# Altium footprint library MP3_Player.PcbLib: 13 footprints
Each footprint in its own frame and in the unit in brackets; x right, y up, seen from the top. Pads: shape width x height; smd on the part's side, far side on the other; paste and mask are expansions set on the pad; w line width, h text height; cw(c..) or ccw(c..) is an arc to the next point about the centre after c.
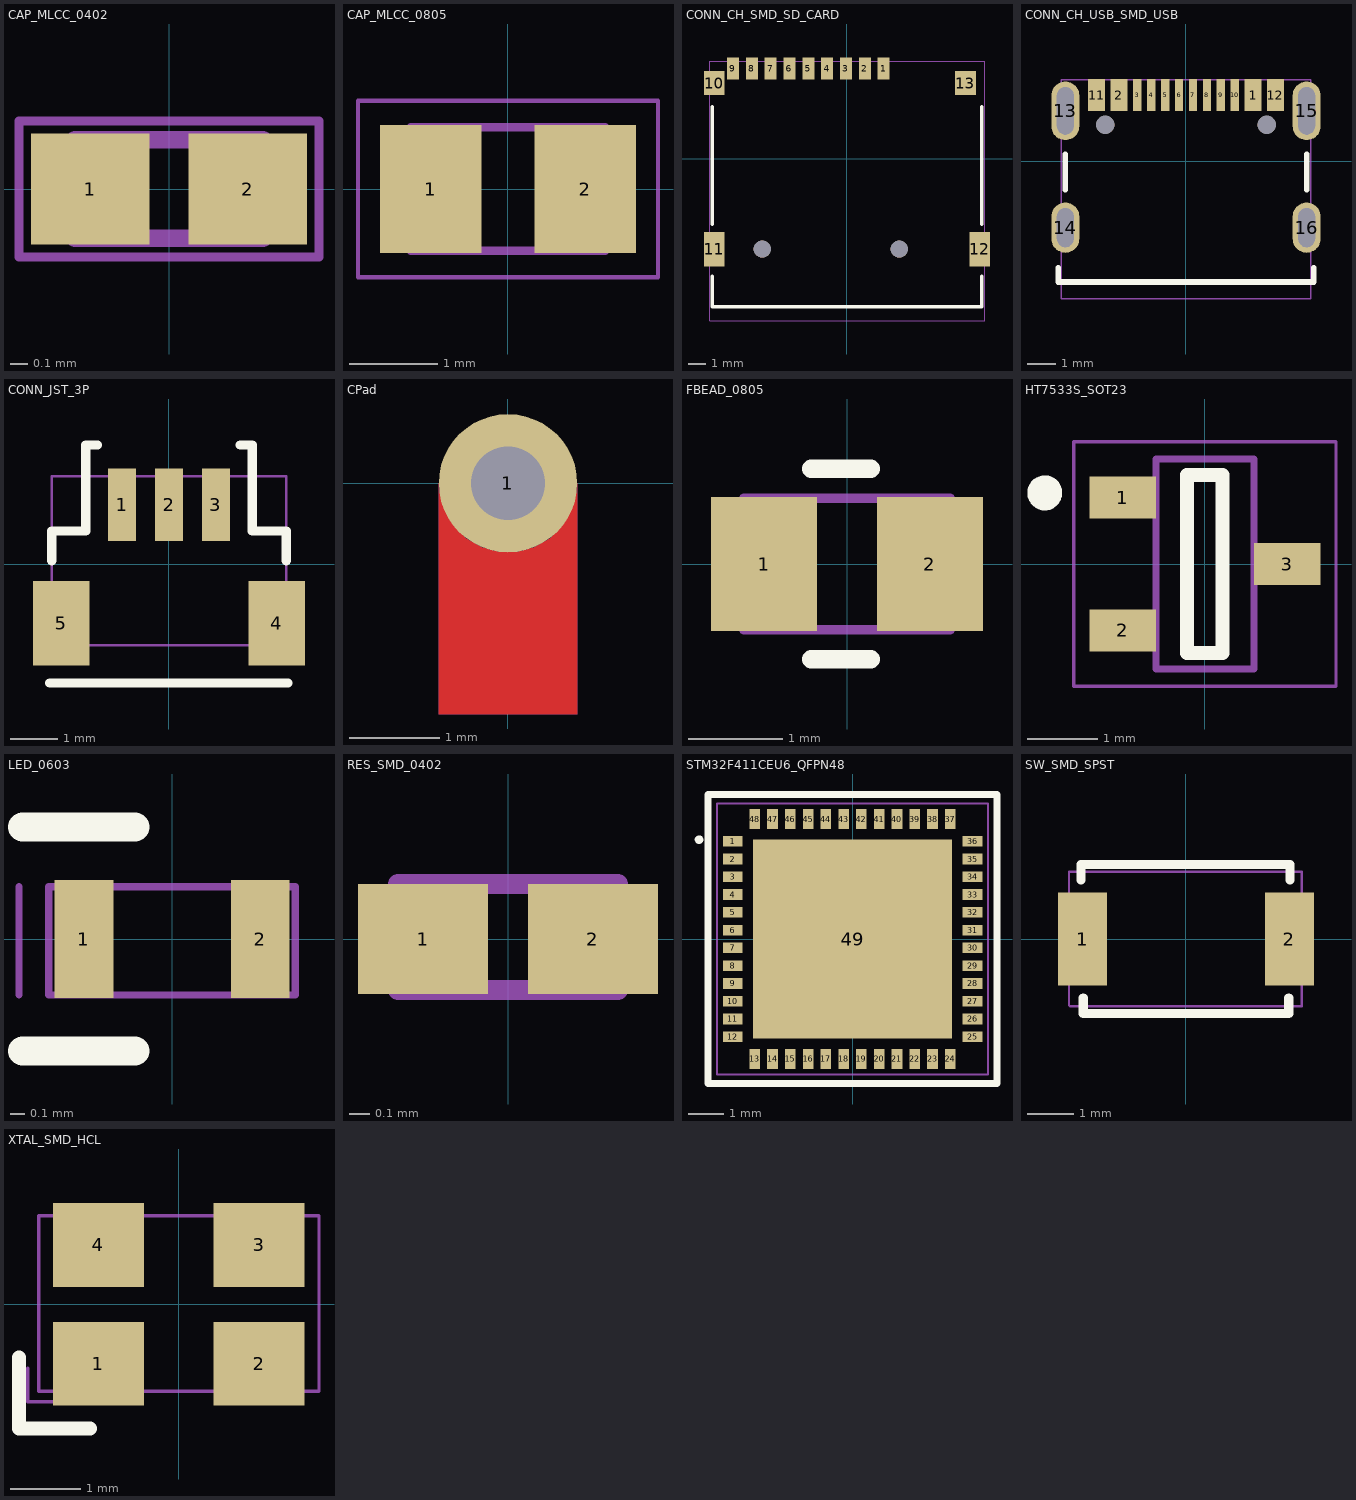
[diagram p0: the footprints below, top view; thin cyan lines are the x and y axes]

## CAP_MLCC_0402 [mm]
pads (2):
  rect 0.66x0.62 smd: 1(-0.44,0) 2(0.44,0)
Mechanical 13:
  lines w0.1: -0.525,-0.275 0.525,-0.275 0.525,0.275 -0.525,0.275 -0.525,-0.275
Mechanical 15:
  lines w0.051: -0.838,-0.381 0.838,-0.381 0.838,0.381 -0.838,0.381 -0.838,-0.381
  text "'.Designator'" at 0.836,-0.912 h0.76
3D body "CAP_MLCC_0402.step": height 0.55, standoff 0, extent -0.525,-0.275 0.525,0.275

## CAP_MLCC_0805 [mm]
pads (2):
  rect 1.15x1.45 smd: 1(-0.875,0) 2(0.875,0)
Mechanical 13:
  lines w0.1: -1.1,-0.7 1.1,-0.7 1.1,0.7 -1.1,0.7 -1.1,-0.7
Mechanical 15:
  lines w0.05: -1.7,-1 1.7,-1 1.7,1 -1.7,1 -1.7,-1
  text "'.Designator'" at -1.048,-0.127 h0.76
3D body "CAP_MLCC_0805.step": height 0.65, standoff 0, extent -1.1,-0.7 1.1,0.7

## CONN_CH_SMD_SD_CARD [mm]
pads (15):
  rect 0.7x1.3 smd: 1(2.14,5.275) 2(1.04,5.275) 3(-0.06,5.275) 4(-1.16,5.275) 5(-2.26,5.275) 6(-3.36,5.275) 7(-4.46,5.275) 8(-5.56,5.275) 9(-6.66,5.275)
  rect 1.2x1.4 smd paste+0: 10(-7.76,4.425) 13(6.92,4.425)
  rect 1.2x2 smd: 11(-7.76,-5.275) 12(7.76,-5.275)
  round 1 hole 1 unplated: ""(-4.95,-5.275) ""(3.05,-5.275)
Top Overlay:
  lines w0.2: -7.874,-6.858 -7.874,-8.636 7.874,-8.636 7.874,-6.858 ; -7.874,-3.81 -7.874,3.048 ; 7.874,-3.81 7.874,3.048
Mechanical 15:
  lines w0.05: -8.026,-9.449 8.052,-9.449 8.052,5.69 -8.026,5.69 -8.026,-9.449
  text "'.Designator'" at -0.744,-1.324 h0.76
3D body "connector_SD_CARD.STEP": height 2, standoff -0.45, extent -8.098,-9.528 8.002,5.672

## CONN_CH_USB_SMD_USB [mm]
pads (18):
  rect 0.6x1.15 smd: 1(2.4,2.372) 2(-2.4,2.372) 11(-3.2,2.372) 12(3.2,2.372)
  rect 0.3x1.15 smd: 3(-1.75,2.372) 4(-1.25,2.372) 5(-0.75,2.372) 6(-0.25,2.372) 7(0.25,2.372) 8(0.75,2.372) 9(1.25,2.372) 10(1.75,2.372)
  oval 1x2.1 hole 0.6 slot 1.7 at 90 deg: 13(-4.32,1.807) 15(4.32,1.807)
  oval 1x1.8 hole 0.6 slot 1.4 at 90 deg: 14(-4.32,-2.372) 16(4.32,-2.372)
  round 0.65 hole 0.65 unplated: ""(-2.89,1.308) ""(2.89,1.308)
Top Overlay:
  lines w0.2: -4.572,-3.81 -4.572,-4.318 4.572,-4.318 4.572,-3.81 ; -4.318,-1.016 -4.318,0.254 ; 4.318,-1.016 4.318,0.254
Mechanical 15:
  lines w0.05: -4.47,-4.928 4.47,-4.928 4.47,2.921 -4.47,2.921 -4.47,-4.928
  text "'.Designator'" at -0.141,-1.741 h0.76
3D body "conn_USB_C_SMD.step": height 3.16, standoff -1.5, extent -4.47,-4.966 4.47,2.934

## CONN_JST_3P [mm]
pads (5):
  rect 0.6x1.55 smd paste-2539.97: 1(-1,1.262) 2(0,1.262) 3(1,1.262)
  rect 1.2x1.8 smd: 4(2.3,-1.262) 5(-2.3,-1.262)
Top Overlay:
  lines w0.2: -2.54,-2.54 2.54,-2.54 ; -2.499,0.069 -2.499,0.704 -1.778,0.704 -1.778,2.54 -1.524,2.54 ; 1.524,2.54 1.778,2.54 1.778,0.704 2.499,0.704 2.499,0.069
Mechanical 15:
  lines w0.051: -2.499,-1.735 2.505,-1.735 2.505,1.872 -2.499,1.872 -2.499,-1.735
  text "'.Designator'" at -2.143,-0.389 h0.76
3D body "CONN-SMD_SR1.00-LS-3P.step": height 4.25, standoff -0.01, extent -2.493,-1.722 2.507,1.889

## CPad [mil]
pads (1):
  round 60 hole 32 mask+0: 1(0,0)
Top Layer:
  region: -30,-100 30,-100 30,0 29.74,-3.92 27.72,-11.48 23.8,-18.26 18.26,-23.8 11.48,-27.72 3.92,-29.74 -3.92,-29.74 -11.48,-27.72 -18.26,-23.8 -23.8,-18.26 -27.72,-11.48 -29.74,-3.92 -30,0
Bottom Layer:
  region: -30,-100 30,-100 30,0 29.74,-3.92 27.72,-11.48 23.8,-18.26 18.26,-23.8 11.48,-27.72 3.92,-29.74 -3.92,-29.74 -11.48,-27.72 -18.26,-23.8 -23.8,-18.26 -27.72,-11.48 -29.74,-3.92 -30,0
Top Solder:
  region: -30,-100 30,-100 30,0 29.74,-3.92 27.72,-11.48 23.8,-18.26 18.26,-23.8 11.48,-27.72 3.92,-29.74 -3.92,-29.74 -11.48,-27.72 -18.26,-23.8 -23.8,-18.26 -27.72,-11.48 -29.74,-3.92 -30,0
Bottom Solder:
  region: -30,-100 30,-100 30,0 29.74,-3.92 27.72,-11.48 23.8,-18.26 18.26,-23.8 11.48,-27.72 3.92,-29.74 -3.92,-29.74 -11.48,-27.72 -18.26,-23.8 -23.8,-18.26 -27.72,-11.48 -29.74,-3.92 -30,0

## FBEAD_0805 [mm]
pads (2):
  rect 1.13x1.43 smd: 1(-0.885,0) 2(0.885,0)
Top Overlay:
  lines w0.2: -0.381,-1.016 0.254,-1.016 ; -0.381,1.016 0.254,1.016
Mechanical 13:
  lines w0.1: -1.1,-0.7 1.1,-0.7 1.1,0.7 -1.1,0.7 -1.1,-0.7
Mechanical 15:
  lines w0.05: -1.1,-0.686 -1.1,0.711 1.1,0.711 1.1,-0.686 -1.1,-0.686
  text "'.Designator'" at 0.877,0.139 h0.76
3D body "FBEAD_0805.step": height 0.55, standoff 0, extent -1.1,-0.7 1.1,0.7

## HT7533S_SOT23 [mm]
pads (3):
  rect 0.95x0.6 smd: 1(-1.175,0.95) 2(-1.175,-0.95) 3(1.175,0)
Top Overlay:
  circle w0.25: c-2.286,1.016 r0.125
  lines w0.2: -0.254,-1.27 0.254,-1.27 0.254,1.27 -0.254,1.27 -0.254,-1.27
Mechanical 13:
  lines w0.1: -0.7,-1.5 0.7,-1.5 0.7,1.5 -0.7,1.5 -0.7,-1.5
Mechanical 15:
  circle w0.127: c-2.21,0.991 r0.057
  lines w0.05: -1.875,-1.75 1.875,-1.75 1.875,1.75 -1.875,1.75 -1.875,-1.75
  text "'.Designator'" at 0.134,-0.533 h0.76
3D body "HT7533S_SOT23.step": height 1.1, standoff 0, extent -1.25,-1.5 1.25,1.5

## LED_0603 [mm]
pads (2):
  rect 0.4x0.8 smd: 1(-0.6,0) 2(0.6,0)
Top Overlay:
  lines w0.2: -1.016,-0.762 -0.254,-0.762 ; -1.016,0.762 -0.254,0.762
Mechanical 15:
  lines w0.05: -0.838,-0.381 0.838,-0.381 0.838,0.356 -0.838,0.356 -0.838,-0.381
  lines w0.051: -1.041,-0.381 -1.041,0.356
  text "'.Designator'" at 0.547,1.119 h0.76
3D body "LED_0603.STEP": height 0.68, standoff 0, extent -0.825,-0.369 0.825,0.356

## RES_SMD_0402 [mm]
pads (2):
  rect 0.65x0.55 smd: 1(-0.425,0) 2(0.425,0)
Mechanical 13:
  lines w0.1: -0.55,-0.254 0.55,-0.254 0.55,0.275 -0.55,0.275 -0.55,-0.254
Mechanical 15:
  lines w0.05: -0.55,-0.254 0.55,-0.254 0.55,0.275 -0.55,0.275 -0.55,-0.254
  text "'.Designator'" at 0.605,-0.969 h0.76
3D body "RES_SMD_0402.step": height 0.35, standoff 0, extent -0.55,-0.275 0.55,0.275

## STM32F411CEU6_QFPN48 [mm]
pads (49):
  rect 0.55x0.3 smd: 1(-3.375,2.75) 2(-3.375,2.25) 3(-3.375,1.75) 4(-3.375,1.25) 5(-3.375,0.75) 6(-3.375,0.25) 7(-3.375,-0.25) 8(-3.375,-0.75) 9(-3.375,-1.25) 10(-3.375,-1.75) 11(-3.375,-2.25) 12(-3.375,-2.75) 25(3.375,-2.75) 26(3.375,-2.25) 27(3.375,-1.75) 28(3.375,-1.25) 29(3.375,-0.75) 30(3.375,-0.25) 31(3.375,0.25) 32(3.375,0.75) 33(3.375,1.25) 34(3.375,1.75) 35(3.375,2.25) 36(3.375,2.75)
  rect 0.3x0.55 smd: 13(-2.75,-3.375) 14(-2.25,-3.375) 15(-1.75,-3.375) 16(-1.25,-3.375) 17(-0.75,-3.375) 18(-0.25,-3.375) 19(0.25,-3.375) 20(0.75,-3.375) 21(1.25,-3.375) 22(1.75,-3.375) 23(2.25,-3.375) 24(2.75,-3.375) 37(2.75,3.375) 38(2.25,3.375) 39(1.75,3.375) 40(1.25,3.375) 41(0.75,3.375) 42(0.25,3.375) 43(-0.25,3.375) 44(-0.75,3.375) 45(-1.25,3.375) 46(-1.75,3.375) 47(-2.25,3.375) 48(-2.75,3.375)
  rect 5.6x5.6 smd: 49(0,0)
Top Overlay:
  circle w0.127: c-4.318,2.794 r0.057
  lines w0.2: -4.064,-4.064 4.064,-4.064 4.064,4.064 -4.064,4.064 -4.064,-4.064
Mechanical 15:
  circle w0.127: c-4.318,2.794 r0.025
  lines w0.051: -3.81,-3.81 3.81,-3.81 3.81,3.81 -3.81,3.81 -3.81,-3.81
  text "'.Designator'" at 0.695,-0.053 h0.76
3D body "STM32F411CEU6.stp": height 0.6, standoff 0, extent -3.55,-3.55 3.55,3.55

## SW_SMD_SPST [mm]
pads (3):
  rect 1.05x2 smd: 1(-2.225,0) 2(2.225,0)
  round 0 on Top Overlay: H(0,0)
Top Overlay:
  lines w0.2: -2.259,1.27 -2.259,1.6 ; -2.243,1.6 2.235,1.6 2.235,1.27 ; -2.208,-1.6 -2.208,-1.27 ; -2.15,-1.6 2.21,-1.6 2.21,-1.27
Mechanical 15:
  lines w0.05: -2.515,-1.422 -2.489,-1.448 1.727,-1.448 2.489,-1.448 2.489,1.448 -2.515,1.448 -2.515,-1.422
  text "'.Designator'" at -1.041,-0.261 h0.76
3D body "switch_button_SPST.step": height 2, standoff -0.01, extent -2.5,-1.45 2.5,1.451

## XTAL_SMD_HCL [mm]
pads (4):
  rect 1.3x1.2 smd: 1(-1.15,-0.85) 2(1.15,-0.85) 3(1.15,0.85) 4(-1.15,0.85)
Top Overlay:
  lines w0.2: -2.286,-0.762 -2.286,-1.778 -1.27,-1.778
Mechanical 15:
  lines w0.05: -2.159,-0.914 -2.159,-1.397 -1.651,-1.397 ; -2.007,-1.245 2.007,-1.245 2.007,1.27 -2.007,1.27 -2.007,-1.245
  text "'.Designator'" at -0.562,-0.236 h0.76
3D body "XTAL_HCL.step": height 0.81, standoff 0, extent -2,-1.25 2,1.25